# Altium footprint library Diodes_Inc_Library.PcbLib: 10 footprints
Each footprint in its own frame and in the unit in brackets; x right, y up, seen from the top. Pads: shape width x height; smd on the part's side, far side on the other; paste and mask are expansions set on the pad; w line width, h text height; cw(c..) or ccw(c..) is an arc to the next point about the centre after c.
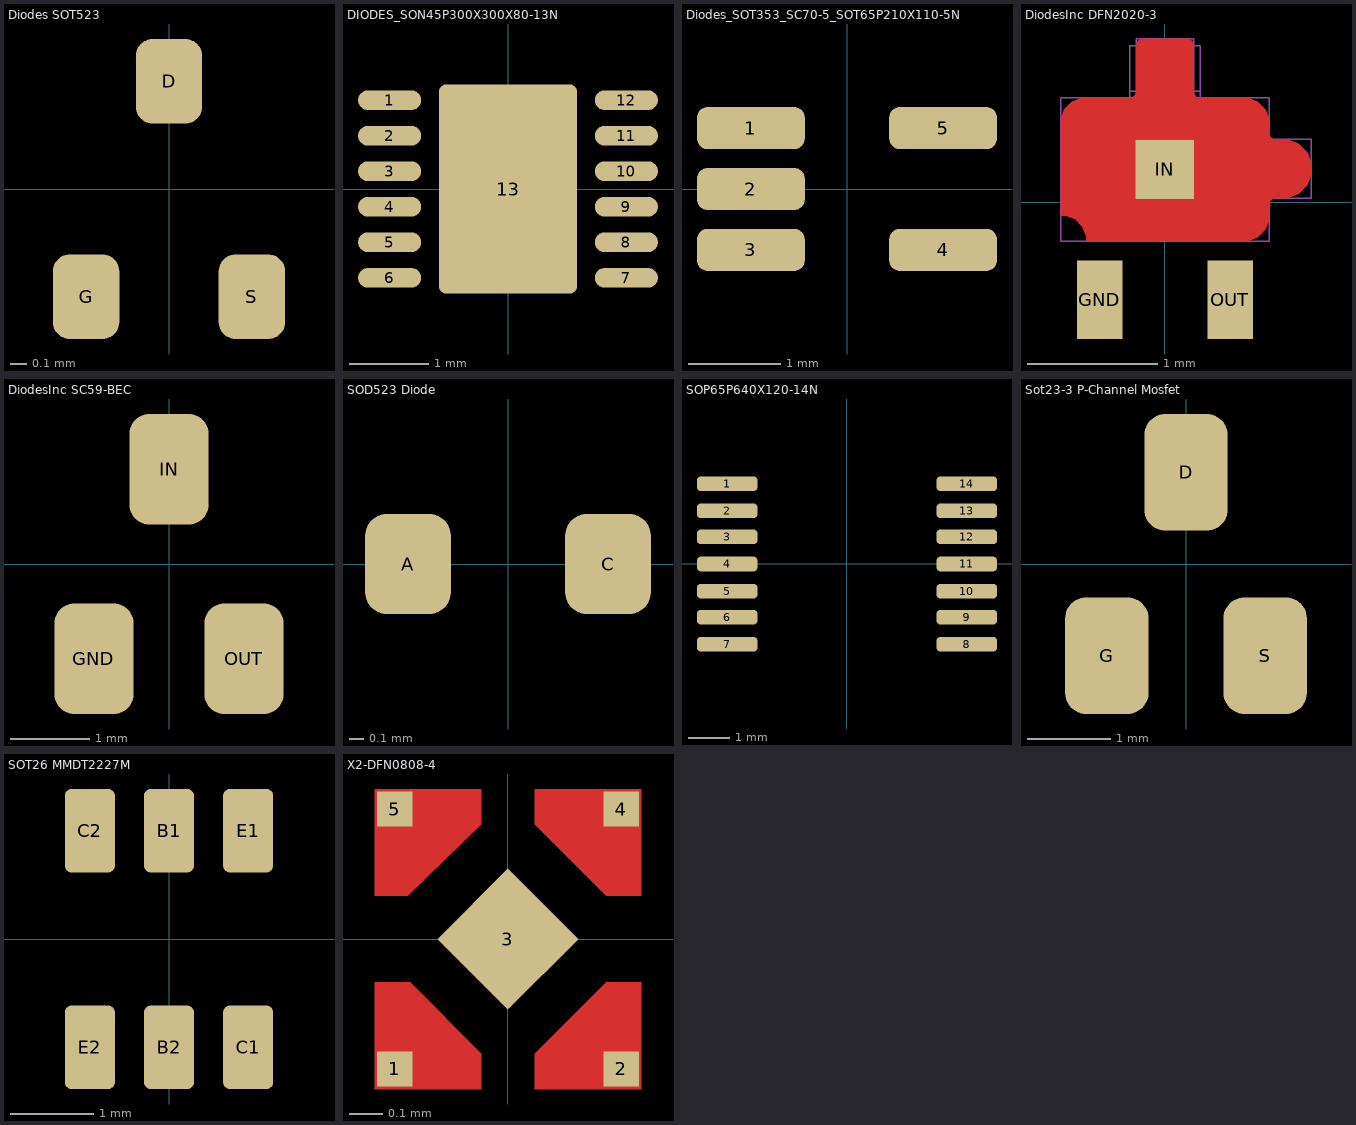
[diagram p0: the footprints below, top view; thin cyan lines are the x and y axes]

## Diodes SOT523 [mm] "Diodes SOT523"
pads (3):
  rrect50% 0.4x0.51 smd: D(0,0.65) G(-0.5,-0.65) S(0.5,-0.65)
3D body "SOT-523.x_t": height 0.8, standoff 0, extent -0.8,-0.8 0.8,0.8

## DIODES_SON45P300X300X80-13N [mm]
pads (13):
  oval 0.8x0.25 smd: 1(-1.5,1.125) 2(-1.5,0.675) 3(-1.5,0.225) 4(-1.5,-0.225) 5(-1.5,-0.675) 6(-1.5,-1.125) 7(1.5,-1.125) 8(1.5,-0.675) 9(1.5,-0.225) 10(1.5,0.225) 11(1.5,0.675) 12(1.5,1.125)
  rrect10% 1.75x2.65 smd: 13(0,0)
3D body "PAM2306AYPAA.x_t": height 0.77, standoff -0.04, extent -1.535,-1.525 1.535,1.525

## Diodes_SOT353_SC70-5_SOT65P210X110-5N [mil]
pads (5):
  rrect50% 46x18 smd: 1(-41,26) 2(-41,0) 3(-41,-26) 4(41,-26) 5(41,26)
3D body "SOT353_SC70-5.step": height 39.37, standoff 0, extent -45.29,-41.35 45.27,41.33

## DiodesInc DFN2020-3 [mm]
pads (3):
  rect 0.35x0.6 smd: GND(-0.5,-0.75) OUT(0.5,-0.75)
  rect 0.45x0.45 smd: IN(0,0.25)
Top Layer:
  region: -0.17,1.25 -0.18,1.25 -0.198,1.242 -0.212,1.228 -0.22,1.21 -0.22,1.2 -0.22,0.85 -0.221,0.84 -0.229,0.822 -0.242,0.808 -0.26,0.801 -0.27,0.8 -0.6,0.8 -0.64,0.8 -0.713,0.769 -0.77,0.713 -0.8,0.64 -0.8,0.6 -0.8,-0.1 -0.761,-0.104 -0.689,-0.134 -0.634,-0.189 -0.604,-0.261 -0.6,-0.3 0.6,-0.3 0.64,-0.3 0.713,-0.27 0.769,-0.213 0.8,-0.14 0.8,-0.1 0.8,-0.02 0.801,-0.01 0.808,0.008 0.822,0.021 0.84,0.029 0.85,0.03 0.899,0.03 0.944,0.03 1.026,0.064 1.09,0.127 1.124,0.21 1.124,0.255 1.124,0.3 1.09,0.382 1.026,0.446 0.944,0.48 0.899,0.48 0.85,0.48 0.84,0.481 0.822,0.488 0.808,0.502 0.801,0.52 0.8,0.53 0.8,0.6 0.8,0.64 0.769,0.713 0.713,0.769 0.64,0.8 0.6,0.8 0.27,0.8 0.26,0.801 0.242,0.808 0.228,0.822 0.221,0.84 0.22,0.85 0.22,1.2 0.22,1.21 0.212,1.228 0.198,1.242 0.18,1.25 0.17,1.25
Mechanical 13:
  region: -0.2,1.05
  lines w0.01: -0.8,-0.1 0.8,-0.1 ; -0.8,0.6 0.8,0.6 ; -0.6,-0.3 -0.6,0.8 ; -0.27,0.8 -0.27,1.2 0.27,1.2 0.27,0.8 ; -0.27,0.85 0.27,0.85 ; -0.22,0.8 -0.22,1.25 0.22,1.25 0.22,0.8 ; -0.17,0.8 -0.17,1.25 ; 0.17,0.8 0.17,1.25 ; 0.6,-0.3 0.6,0.8 ; 0.6,-0.02 0.8,-0.02 ; 0.6,0.53 0.8,0.53 ; 0.8,0.03 1.124,0.03 1.124,0.48 0.8,0.48 ; 0.85,0.03 0.85,0.48 ; 0.899,0.03 0.899,0.48 ; -0.8,-0.3 0.8,-0.3 0.8,0.8 -0.8,0.8 -0.8,-0.3
3D body "DFN2020-3_Body.x_t": height 0.6, standoff 0, extent -1,-0.92 1,1.1

## DiodesInc SC59-BEC [mm]
pads (3):
  rrect50% 1x1.4 smd: GND(-0.95,-1.2) IN(0,1.2) OUT(0.95,-1.2)
3D body "SC 59-3.x_t": height 1.4, standoff 0, extent -1.501,-1.391 1.499,1.408

## SOD523 Diode [mm] "SOD523 Diode"
pads (2):
  rrect50% 0.6x0.7 smd: A(-0.7,0) C(0.7,0)
3D body "SOD523-1.step": height 0.7, standoff 0, extent -0.8,-0.399 0.8,0.399

## SOP65P640X120-14N [mil]
pads (14):
  rrect50% 58x14 smd: 1(-115,77) 2(-115,51) 3(-115,26) 4(-115,0) 5(-115,-26) 6(-115,-51) 7(-115,-77) 8(115,-77) 9(115,-51) 10(115,-26) 11(115,0) 12(115,26) 13(115,51) 14(115,77)
3D body "tssop14-2.step": height 47.24, standoff 0, extent -125.98,-100.39 125.99,100.4

## Sot23-3 P-Channel Mosfet [mm] "P-Channel Mosfet"
pads (3):
  rrect50% 1x1.4 smd: D(0,1.1) G(-0.95,-1.1) S(0.95,-1.1)
3D body "sot23-3.step": height 1.01, standoff -0.01, extent -1.46,-1.25 1.46,1.226

## SOT26 MMDT2227M [mm]
height 1.6
pads (6):
  rrect25% 0.6x1 smd: B1(0,1.3) B2(0,-1.3) C1(0.95,-1.3) C2(-0.95,1.3) E1(0.95,1.3) E2(-0.95,-1.3)
3D body "SOT23-6.STEP": height 1.44, standoff -0.01, extent -1.45,-1.4 1.45,1.4

## X2-DFN0808-4 [mm] "X2-DFN0808-4"
pads (5):
  rect 0.106x0.106 smd paste+0 mask+0: 1(-0.34,-0.39) 2(0.34,-0.39) 4(0.34,0.39) 5(-0.34,0.39)
  rect 0.3x0.3 smd rot 45 mask+0.05: 3(0,0)
Top Layer:
  region: -0.4,-0.45 -0.08,-0.45 -0.08,-0.344 -0.294,-0.13 -0.4,-0.13
  region: 0.4,0.45 0.08,0.45 0.08,0.344 0.294,0.13 0.4,0.13
  region: 0.4,-0.45 0.4,-0.13 0.294,-0.13 0.08,-0.344 0.08,-0.45
  region: -0.4,0.45 -0.4,0.13 -0.3,0.13 -0.08,0.344 -0.08,0.45